# EAGLE library part PN532_NFC (library alvie)
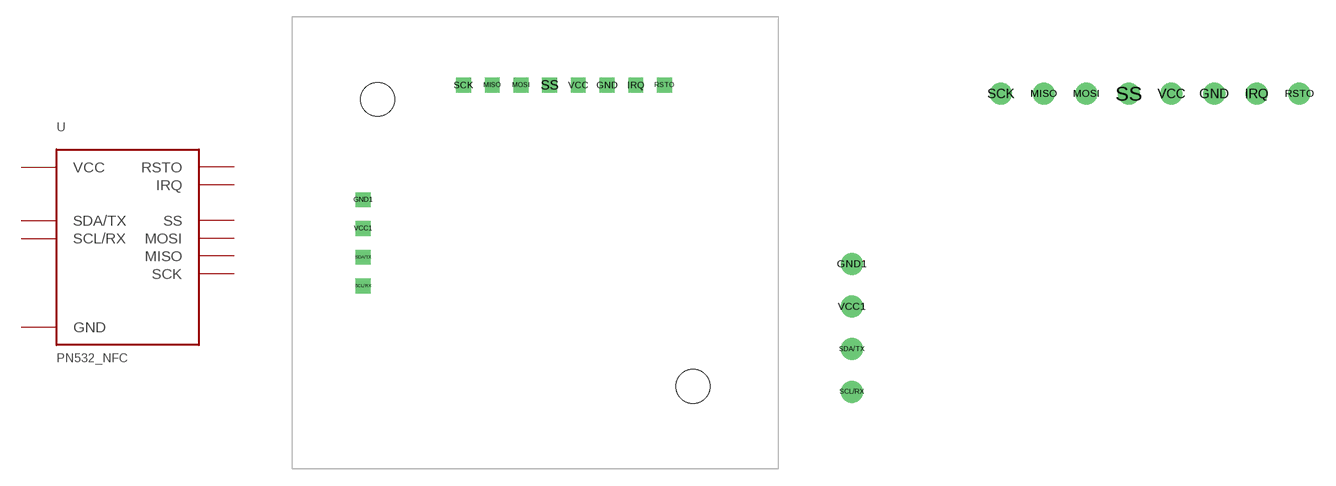
[diagram p81: symbol with the pads of HW-147-NFC; footprints HW-147-NFC, HW-147-NFC-NOHOLES]

Designator prefix -

## PN532_NFCA  [HW-147-NFC]
GND  GND  pwr
GND1  GND  pwr
IRQ  IRQ
MISO  MISO
MOSI  MOSI
RSTO  RSTO
SCK  SCK
SCL/RX  SCL/RX
SDA/TX  SDA/TX
SS  SS
VCC  VCC  pwr
VCC1  VCC  pwr

## PN532_NFCB  [HW-147-NFC-NOHOLES]
Pads as for HW-147-NFC

## Footprint HW-147-NFC (pad centres in mm)
drill 0.8 square: GND 6.35,13.97; GND1 -15.24,3.81; IRQ 8.89,13.97; MISO -3.81,13.97; MOSI -1.27,13.97; RSTO 11.43,13.97; SCK -6.35,13.97; SCL/RX -15.24,-3.81; SDA/TX -15.24,-1.27; SS 1.27,13.97; VCC 3.81,13.97; VCC1 -15.24,1.27
hole 3 at -13.97,12.7
hole 3 at 13.97,-12.7

## Footprint HW-147-NFC-NOHOLES (pad centres in mm)
drill 0.8: GND 6.35,13.97; GND1 -15.24,3.81; IRQ 8.89,13.97; MISO -3.81,13.97; MOSI -1.27,13.97; RSTO 11.43,13.97; SCK -6.35,13.97; SCL/RX -15.24,-3.81; SDA/TX -15.24,-1.27; SS 1.27,13.97; VCC 3.81,13.97; VCC1 -15.24,1.27